# EAGLE library part MICRO-USB (library USB)
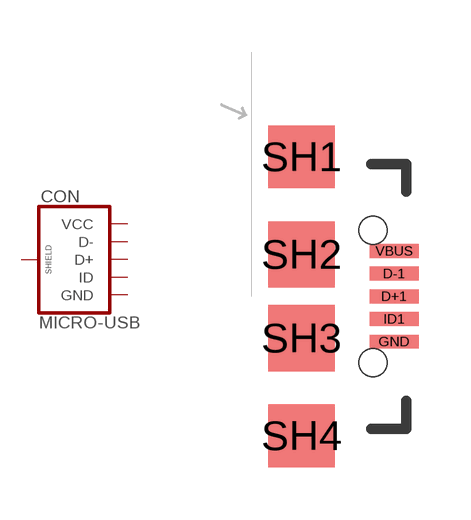
[diagram p0: symbol with the pads of MICRO-USB; footprint MICRO-USB]

Designator prefix CON

## MICRO-USB (OC_REICHELT: MIC USB BBU; VALUE: Micro USB)  [MICRO-USB]
D+1  D+
D-1  D-
GND  GND
ID1  ID
SH1  SHIELD
SH2  SHIELD
SH3  SHIELD
SH4  SHIELD
VBUS  VCC

## Footprint MICRO-USB (pad centres in mm)
smd 1.4 x 0.4: D+1 2.65,0; D-1 2.65,0.65; GND 2.65,-1.3; ID1 2.65,-0.65; VBUS 2.65,1.3
smd 1.9 x 1.8: SH1 0,4; SH4 0,-4
smd 1.9 x 1.9: SH2 0,1.2; SH3 0,-1.2
hole 0.8 at 2.05,1.9
hole 0.8 at 2.05,-1.9